# EAGLE library part SSR_M_FULL (library Solid-State-Relay_Module)
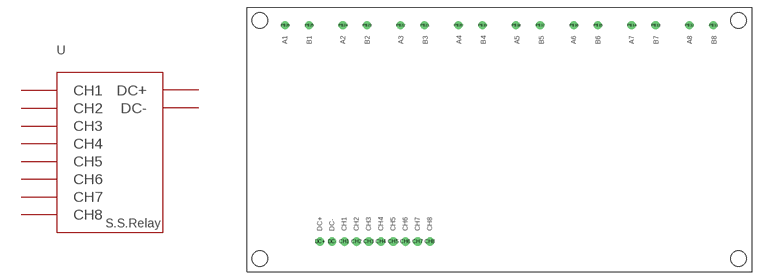
[diagram p0: symbol with the pads of SSR_M; footprint SSR_M]

Designator prefix -

## SSR_M_FULL  [SSR_M]
CH1  CH1
CH2  CH2
CH3  CH3
CH4  CH4
CH5  CH5
CH6  CH6
CH7  CH7
CH8  CH8
DC+  DC+
DC-  DC-

## Footprint SSR_M (pad centres in mm)
drill 1 pad 1.7: CH1 17.58,3.5; CH2 20.12,3.5; CH3 22.66,3.5; CH4 25.2,3.5; CH5 27.74,3.5; CH6 30.28,3.5; CH7 32.82,3.5; CH8 35.36,3.5; DC+ 12.5,3.5; DC- 15.04,3.5; P$11 94.25,48.5; P$12 89.25,48.5; P$13 82.25,48.5; P$14 77.25,48.5; P$15 70.25,48.5; P$16 65.25,48.5; P$17 58.25,48.5; P$18 53.25,48.5; P$19 46.25,48.5; P$20 41.25,48.5; P$21 34.25,48.5; P$22 29.25,48.5; P$23 22.25,48.5; P$24 17.25,48.5; P$25 10.25,48.5; P$26 5.25,48.5
hole 3.2 at 0,0
hole 3.2 at 99.5,0
hole 3.2 at 99.5,49.5
hole 3.2 at 0,49.5